# Altium integrated library TPS56339DDCR.IntLib: 1 symbol
Pins are listed as number, name and electrical type; pins without a type are passive.

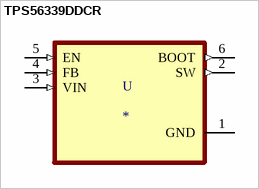
[diagram p0: symbol TPS56339DDCR]

## TPS56339DDCR
designator U
4.5-V to 24-V input, 3-A output synchronous buck converter 6-SOT-23-THIN -40 to 125; MF: Texas Instruments; MP: TPS56339DDCR; Package: SOT-23-THN-6 Texas Instruments; Mouser-Purchase-URL: https://snapeda.com/shop?store=Mouser&id=4178121; Texas_Instruments-Purchase-URL: https://snapeda.com/shop?store=Texas+Instruments&id=4178121; Value: *; Price: None; DigiKey-Purchase-URL: https://snapeda.com/shop?store=DigiKey&id=4178121; Availability: Good; SnapEDA_Link: https://www.snapeda.com/parts/TPS56339DDCR/Texas%20Instruments/view-part/4178121/?ref=snap
footprint SOT95P280X110-6N
pins: 1 GND (power), 2 SW (out), 3 VIN (in), 4 FB (in), 5 EN (in), 6 BOOT (out)